# Altium integrated library ABM8-26MHz.IntLib: 1 symbol
Pins are listed as number, name and electrical type; pins without a type are passive.

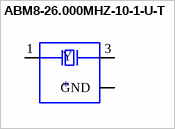
[diagram p0: symbol ABM8-26.000MHZ-10-1-U-T]

## ABM8-26.000MHZ-10-1-U-T
designator Y
26MHz Â±10ppm Crystal 10pF 50 Ohms 4-SMD, No Lead; MP: ABM8-26.000MHZ-10-1-U-T; MF: Abracon; Package: SMD-4 Abracon; SnapEDA_Link: https://www.snapeda.com/parts/ABM8-26.000MHZ-10-1-U-T/Abracon%20LLC/view-part/356267/?ref=snap; Digi-Key_Purchase_URL: https://www.digikey.com/product-detail/en/abracon-llc/ABM8-26.000MHZ-10-1-U-T/300-8230-1-ND/687923?utm_source=snapeda&utm_medium=aggregator&utm_campaign=symbol; Value: *; Digi-Key_Part_Number: 300-8230-1-ND
footprint OSCSC320X250X100N
pins: 1, 2 GND (power), 3, 4 GND (power)